# Altium footprint library JWB-001_Main.PcbLib: 34 footprints (part 3 of 3)
Each footprint in its own frame and in the unit in brackets; x right, y up, seen from the top. Pads: shape width x height; smd on the part's side, far side on the other; paste and mask are expansions set on the pad; w line width, h text height; cw(c..) or ccw(c..) is an arc to the next point about the centre after c.
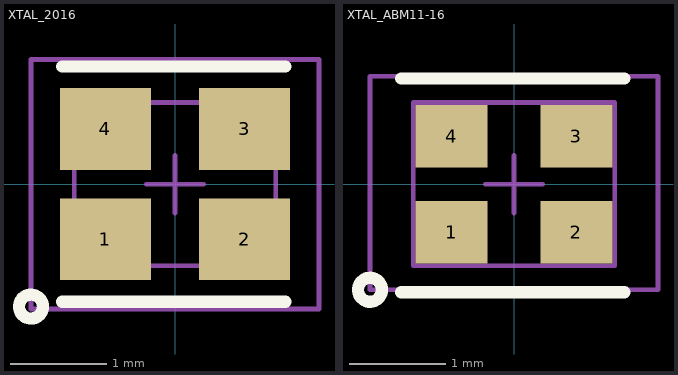
[diagram p2: the footprints below, top view; thin cyan lines are the x and y axes]

## XTAL_2016 [mm] "Crystal, 4 lead, 2.0mm x 1.6mm"
height 0.5
pads (4):
  rect 0.95x0.85 smd: 1(-0.725,-0.575) 2(0.725,-0.575) 3(0.725,0.575) 4(-0.725,0.575)
Top Overlay:
  circle w0.127: c-1.5,-1.275 r0.125
  lines w0.127: -1.175,-1.225 1.15,-1.225 ; -1.175,1.225 1.15,1.225
Mechanical 11:
  text ".Designator" at -0.762,-0.254 h0.5
Mechanical 13:
  lines w0.05: -1.05,-0.85 1.05,-0.85 1.05,0.85 -1.05,0.85 -1.05,-0.85
Mechanical 15:
  lines w0.05: -0.3,0 0.3,0 ; 0,-0.3 0,0.3 ; -1.5,-1.3 -1.5,1.3 1.5,1.3 1.5,-1.3 -1.5,-1.3
3D body: height 0.5, standoff 0, extent -1.05,-0.85 1.05,0.85

## XTAL_ABM11-16 [mm] "Crystal, 4 lead, 2.0mm x 1.6mm"
height 0.5
pads (4):
  rect 0.75x0.65 smd: 1(-0.65,-0.5) 2(0.65,-0.5) 3(0.65,0.5) 4(-0.65,0.5)
Top Overlay:
  circle w0.127: c-1.5,-1.1 r0.125
  lines w0.127: -1.175,-1.125 1.15,-1.125 ; -1.175,1.1 1.15,1.1
Mechanical 11:
  text ".Designator" at -0.762,-0.254 h0.5
Mechanical 13:
  lines w0.05: -1.05,-0.85 1.05,-0.85 1.05,0.85 -1.05,0.85 -1.05,-0.85
Mechanical 15:
  lines w0.05: -0.3,0 0.3,0 ; 0,-0.3 0,0.3 ; -1.5,-1.1 -1.5,1.125 1.5,1.125 1.5,-1.1 -1.5,-1.1
3D body "User Library-ABM11.STEP": height 0.58, standoff -0.01, extent -0.975,-0.8 1.025,0.8